# Altium footprint library Connectors.PcbLib: 77 footprints (part 3 of 5)
Each footprint in its own frame and in the unit in brackets; x right, y up, seen from the top. Pads: shape width x height; smd on the part's side, far side on the other; paste and mask are expansions set on the pad; w line width, h text height; cw(c..) or ccw(c..) is an arc to the next point about the centre after c.
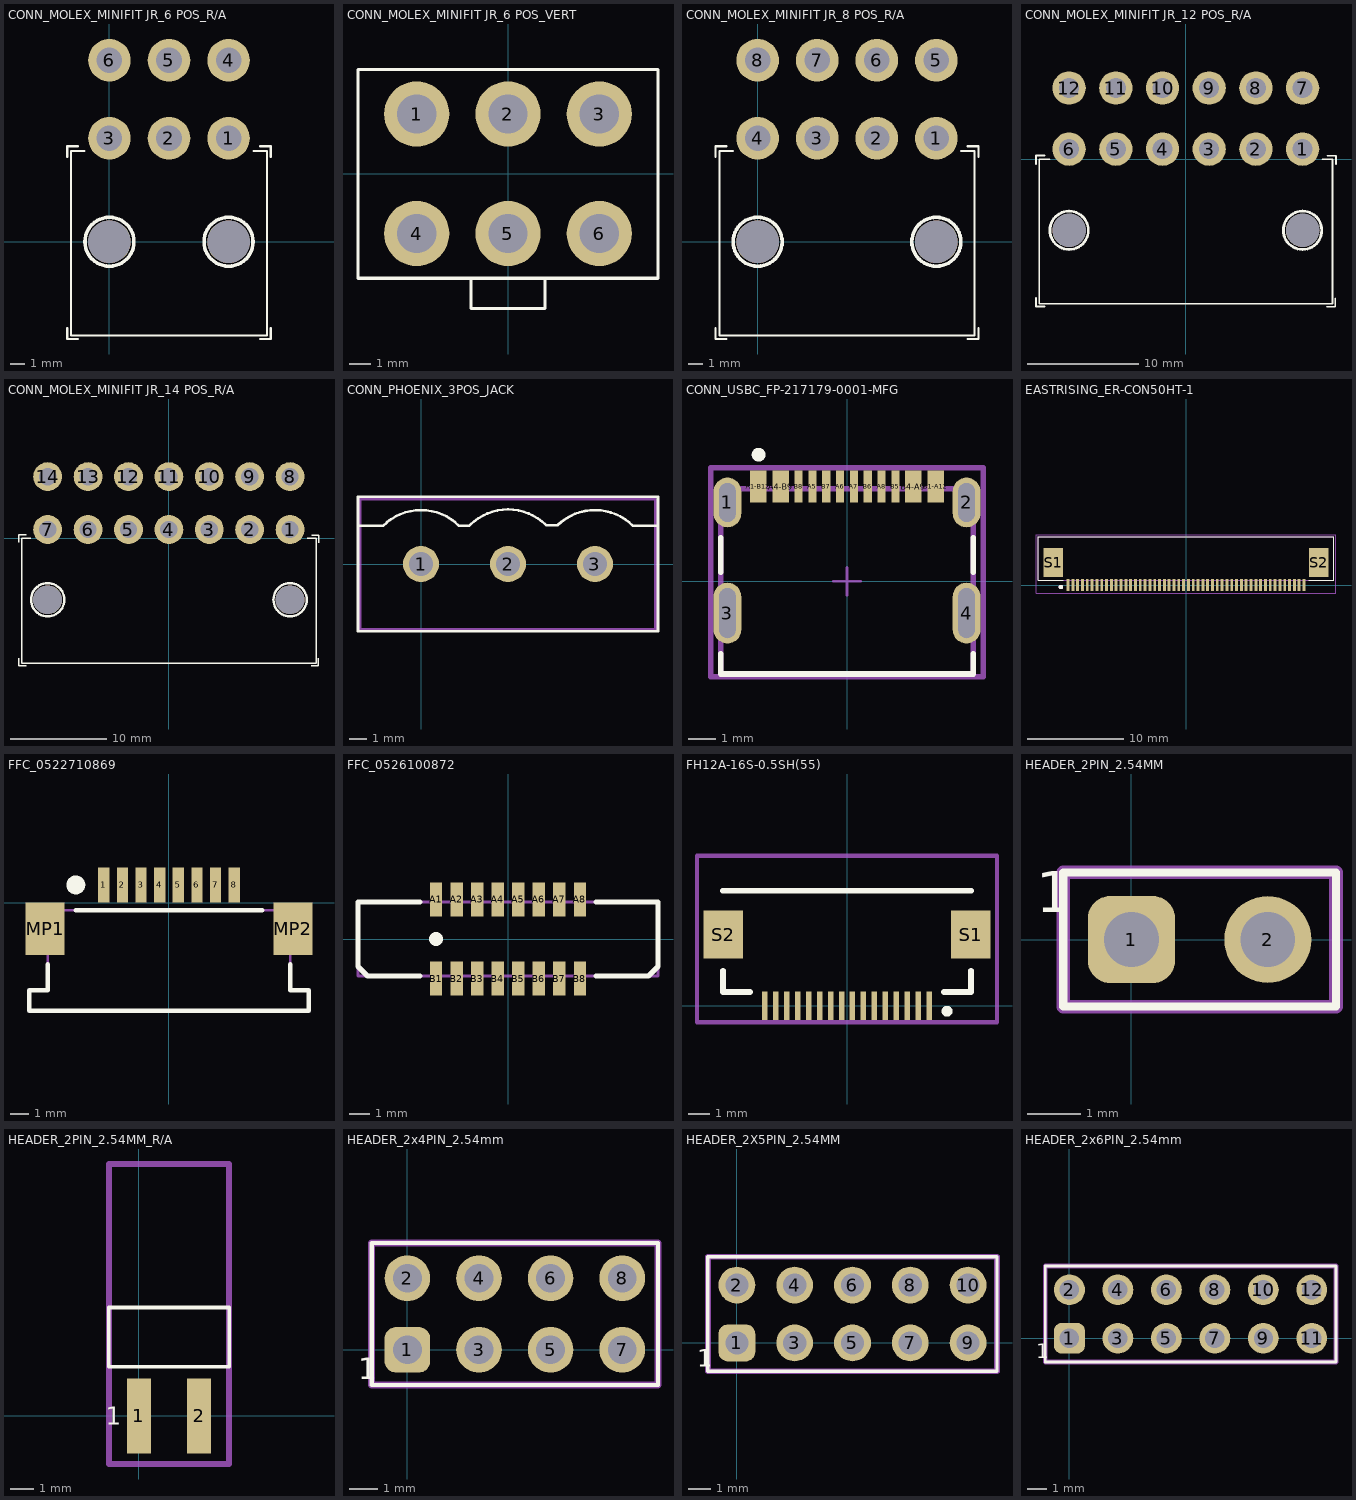
[diagram p2: the footprints below, top view; thin cyan lines are the x and y axes]

## CONN_MOLEX_MINIFIT JR_6 POS_R/A [mm] "Molex Minifit Jr 5569 6 Pos R/A"
pads (8):
  round 3 hole 1.801: 1(8.4,7.3) 4(8.4,12.8)
  round 3 hole 1.8: 2(4.2,7.3) 3(0,7.3) 5(4.2,12.8) 6(0,12.8)
  round 3 hole 3 unplated mask+0: ""(0,0) ""(8.4,0)
Top Overlay:
  circle w0.254: c8.4,0 r1.727
  circle w0.254: c0,0 r1.727
  lines w0.152: -2.98,-6.096 -2.98,-6.858 -2.218,-6.858 ; -2.98,5.969 -2.98,6.731 -2.218,6.731 ; -1.76,6.4 -2.7,6.4 -2.7,-6.604 11.1,-6.604 11.1,6.4 10.16,6.4 ; 10.618,-6.858 11.38,-6.858 11.38,-6.096 ; 10.618,6.731 11.38,6.731 11.38,5.969
3D body "039301060.stp": height 11.4, standoff -3.6, extent -2.582,-6.604 11.618,13.331

## CONN_MOLEX_MINIFIT JR_6 POS_VERT [mm] "Molex Minifit Jr 5566 6 Pos VERT"
pads (6):
  round 3 hole 1.8: 1(-4.2,2.75) 2(0,2.75) 4(-4.2,-2.75) 5(0,-2.75)
  round 3 hole 1.801: 3(4.2,2.75) 6(4.2,-2.75)
Top Overlay:
  lines w0.127: -1.7,-6.2 1.7,-6.2 1.7,-4.8 -1.7,-4.8 -1.7,-6.2
  lines w0.152: -6.9,-4.8 6.9,-4.8 6.9,4.8 -6.9,4.8 -6.9,-4.8
3D body "39-28-8060.stp": height 12.81, standoff -3.49, extent -7.234,-6.174 7.366,4.826

## CONN_MOLEX_MINIFIT JR_8 POS_R/A [mm] "Molex Minifit Jr 5569 8 Pos R/A"
pads (10):
  round 3 hole 1.801: 1(12.6,7.3) 2(8.4,7.3) 5(12.6,12.8) 6(8.4,12.8)
  round 3 hole 1.8: 3(4.2,7.3) 4(0,7.3) 7(4.2,12.8) 8(0,12.8)
  round 3 hole 3 unplated mask+0: ""(0,0) ""(12.6,0)
Top Overlay:
  circle w0.254: c0,0 r1.727
  circle w0.254: c12.6,0 r1.727
  lines w0.152: -2.98,-6.096 -2.98,-6.858 -2.218,-6.858 ; -2.98,5.969 -2.98,6.731 -2.218,6.731 ; -1.76,6.4 -2.7,6.4 -2.7,-6.604 15.3,-6.604 15.3,6.4 14.36,6.4 ; 14.818,-6.858 15.58,-6.858 15.58,-6.096 ; 14.818,6.731 15.58,6.731 15.58,5.969
3D body "039301080.stp": height 11.01, standoff -3.99, extent -2.7,-6.6 15.7,13.335

## CONN_MOLEX_MINIFIT JR_12 POS_R/A [mm] "Molex Minifit Jr 5569 12 Pos R/A"
pads (14):
  round 3 hole 1.801: 1(10.5,0.9) 2(6.3,0.9) 3(2.1,0.9) 4(-2.1,0.9) 7(10.5,6.4) 8(6.3,6.4) 9(2.1,6.4) 10(-2.1,6.4)
  round 3 hole 1.8: 5(-6.3,0.9) 6(-10.5,0.9) 11(-6.3,6.4) 12(-10.5,6.4)
  round 3 hole 3 unplated mask+0: ""(-10.5,-6.4) ""(10.5,-6.4)
Top Overlay:
  circle w0.254: c-10.5,-6.4 r1.727
  circle w0.254: c10.5,-6.4 r1.727
  lines w0.152: -13.48,-12.496 -13.48,-13.258 -12.718,-13.258 ; -13.48,-0.431 -13.48,0.331 -12.718,0.331 ; -12.26,0 -13.2,0 -13.2,-13.004 13.2,-13.004 13.2,0 12.26,0 ; 12.684,-13.27 13.446,-13.27 13.446,-12.508 ; 12.744,0.301 13.506,0.301 13.506,-0.461
3D body "039300120.stp": height 11.01, standoff -3.99, extent -13.274,-13.083 13.526,6.852

## CONN_MOLEX_MINIFIT JR_14 POS_R/A [mm] "Molex Minifit Jr 5569 14 Pos R/A"
pads (16):
  round 3 hole 1.801: 1(12.6,0.9) 2(8.4,0.9) 3(4.2,0.9) 4(0,0.9) 8(12.6,6.4) 9(8.4,6.4) 10(4.2,6.4) 11(0,6.4)
  round 3 hole 1.8: 5(-4.2,0.9) 6(-8.4,0.9) 7(-12.6,0.9) 12(-4.2,6.4) 13(-8.4,6.4) 14(-12.6,6.4)
  round 3 hole 3 unplated mask+0: ""(-12.6,-6.4) ""(12.6,-6.4)
Top Overlay:
  circle w0.254: c-12.6,-6.4 r1.727
  circle w0.254: c12.6,-6.4 r1.727
  lines w0.152: -15.58,-12.496 -15.58,-13.258 -14.818,-13.258 ; -15.58,-0.431 -15.58,0.331 -14.818,0.331 ; -14.36,0 -15.3,0 -15.3,-13.004 15.3,-13.004 15.3,0 14.36,0 ; 14.784,-13.27 15.546,-13.27 15.546,-12.508 ; 14.844,0.301 15.606,0.301 15.606,-0.461
3D body "039301140.stp": height 11.4, standoff -3.6, extent -15.3,-12.9 15.7,7.035

## CONN_PHOENIX_3POS_JACK [mm] "3 position phoenix connector jack end"
pads (3):
  round 2.1 hole 1.4: 1(0,0) 2(5.08,0) 3(10.16,0)
Top Overlay:
  lines w0.152: -3.683,2.227 -2.227,2.227 cw(c0,0) 2.227,2.227 2.814,2.227 ; 2.853,2.266 cw(c5.08,0.038) 7.307,2.266 7.933,2.266 ; 7.972,2.266 cw(c10.16,0) 12.387,2.227 13.843,2.227 ; -3.683,-3.937 13.843,-3.937 13.843,3.937 -3.683,3.937 -3.683,-3.937
Mechanical 1:
  lines w0.152: -3.54,-3.81 13.7,-3.81 13.7,3.8 -3.54,3.8 -3.54,-3.81
3D body "pxc_1755749_04_MSTBVA-2-5-3-G-5-08_3D.stp": height 12.01, standoff -3.89, extent -3.537,-4.7 13.703,3.87

## CONN_USBC_FP-217179-0001-MFG [mm] "USB-C (USB TYPE-C) USB 2.0 Receptacle Connector 24 (16+8 Dummy) Position Surface Mount, Right Angle; Through Hole"
pads (16):
  rrect100% 1x1.8 hole 1.4 slot 0.6 at 0 deg paste-2539.97 mask+0: 1(-4.32,2.85) 2(4.32,2.85)
  rrect100% 1x2.2 hole 1.8 slot 0.6 at 0 deg paste-2539.97 mask+0: 3(-4.32,-1.15) 4(4.32,-1.15)
  rect 0.6x1.15 smd paste+0 mask+0: A1-B12(-3.2,3.425) A4-B9(-2.4,3.425) B1-A12(3.2,3.425) B4-A9(2.4,3.425)
  rect 0.3x1.15 smd paste+0 mask+0: A5(-1.25,3.425) A6(-0.25,3.425) A7(0.25,3.425) A8(1.25,3.425) B5(1.75,3.425) B6(0.75,3.425) B7(-0.75,3.425) B8(-1.75,3.425)
Top Overlay:
  circle w0.25: c-3.195,4.575 r0.125
  lines w0.2: -4.57,-2.625 -4.57,-3.35 4.57,-3.35 4.57,-2.625 ; -4.57,0.325 -4.57,1.575 ; 4.57,0.325 4.57,1.575
Top 3D Body:
  lines w0.2: -4.57,-3.35 -4.57,3.35 4.57,3.35 4.57,-3.35 -4.57,-3.35
Top Assembly:
  lines w0.2: -4.92,-3.45 -4.92,4.1 4.92,4.1 4.92,-3.45 -4.92,-3.45
  text ".Designator" at 0,0.513 h1
Top Courtyard:
  lines w0.2: -4.92,-3.45 -4.92,4.1 4.92,4.1 4.92,-3.45 -4.92,-3.45
Top Component Center:
  lines w0.1: -0.5,0 0.5,0 ; 0,-0.5 0,0.5
3D body "Conn_Molex_217179-0001_eec.STEP": height 0.25, standoff 0, extent -4.92,-3.45 4.92,4.1

## EASTRISING_ER-CON50HT-1 [mm]
pads (52):
  rect 0.3x1.25 smd: 1(-12.25,0) 2(-11.75,0) 3(-11.25,0) 4(-10.75,0) 5(-10.25,0) 6(-9.75,0) 7(-9.25,0) 8(-8.75,0) 9(-8.25,0) 10(-7.75,0) 11(-7.25,0) 12(-6.75,0) 13(-6.25,0) 14(-5.75,0) 15(-5.25,0) 16(-4.75,0) 17(-4.25,0) 18(-3.75,0) 19(-3.25,0) 20(-2.75,0) 21(-2.25,0) 22(-1.75,0) 23(-1.25,0) 24(-0.75,0) 25(-0.25,0) 26(0.25,0) 27(0.75,0) 28(1.25,0) 29(1.75,0) 30(2.25,0) 31(2.75,0) 32(3.25,0) 33(3.75,0) 34(4.25,0) 35(4.75,0) 36(5.25,0) 37(5.75,0) 38(6.25,0) 39(6.75,0) 40(7.25,0) 41(7.75,0) 42(8.25,0) 43(8.75,0) 44(9.25,0) 45(9.75,0) 46(10.25,0) 47(10.75,0) 48(11.25,0) 49(11.75,0) 50(12.25,0)
  rect 2x3 smd: S1(-13.79,2.325) S2(13.79,2.325)
Top Overlay:
  circle w0.25: c-13,-0.2 r0.1
  lines w0.127: -12.75,0.5 -15.325,0.5 -15.325,5 15.325,5 15.325,0.5 12.75,0.5
Mechanical 13:
  circle w0.25: c-13,-0.2 r0.1
  lines w0.127: -15.325,0.5 -15.325,5 15.325,5 15.325,0.5 -15.325,0.5
Mechanical 15:
  lines w0.05: -15.575,-0.875 -15.575,5.25 15.575,5.25 15.575,-0.875 -15.575,-0.875

## FFC_0522710869 [mm] "Molex FFC 8 Bottom 1.00MM R/A"
pads (10):
  rect 0.6x1.9 smd: 1(-3.5,0.95) 2(-2.5,0.95) 3(-1.5,0.95) 4(-0.5,0.95) 5(0.5,0.95) 6(1.5,0.95) 7(2.5,0.95) 8(3.5,0.95)
  rect 2.1x2.8 smd: MP1(-6.65,-1.4) MP2(6.65,-1.4)
Top Overlay:
  circle w0.508: c-5,0.95 r0.254
  lines w0.254: -7.5,-4.7 -7.5,-5.8 7.5,-5.8 7.5,-4.7 ; -7.494,-4.7 -6.5,-4.7 -6.5,-3.3 ; -5,-0.4 5,-0.4 ; 6.5,-3.3 6.5,-4.7 7.494,-4.7
Mechanical 1:
  lines w0.127: -7.5,-4.7 -7.5,-5.8 7.5,-5.8 7.5,-4.7 ; -7.494,-4.7 -6.5,-4.7 -6.5,-0.4 6.5,-0.4 6.5,-4.7 7.494,-4.7
3D body "522710869.stp": height 3.01, standoff 0.01, extent -7.5,-5.8 7.5,1.6

## FFC_0526100872 [mm] "Molex FFC VERT 8POS 1.00MM SMD"
pads (16):
  rect 0.6x1.65 smd: A1(-3.5,1.925) A2(-2.5,1.925) A3(-1.5,1.925) A4(-0.5,1.925) A5(0.5,1.925) A6(1.5,1.925) A7(2.5,1.925) A8(3.5,1.925) B1(-3.5,-1.925) B2(-2.5,-1.925) B3(-1.5,-1.925) B4(-0.5,-1.925) B5(0.5,-1.925) B6(1.5,-1.925) B7(2.5,-1.925) B8(3.5,-1.925)
Top Overlay:
  circle w0.339: c-3.5,0 r0.169
  lines w0.254: -4.3,-1.8 -6.836,-1.8 -7.3,-1.336 -7.3,1.8 -4.3,1.8 ; 4.3,-1.8 6.836,-1.8 7.3,-1.336 7.3,1.8 4.3,1.8
Mechanical 1:
  lines w0.127: -7.3,-1.8 -7.3,1.8 7.3,1.8 7.3,-1.8 -7.3,-1.8
3D body "526100872.stp": height 5.76, standoff 0.01, extent -7.3,-2.25 7.3,2.25

## FH12A-16S-0.5SH(55) [mm]
pads (18):
  rect 0.25x1.3 smd mask+0.025: 1(3.75,0) 2(3.25,0) 3(2.75,0) 4(2.25,0) 5(1.75,0) 6(1.25,0) 7(0.75,0) 8(0.25,0) 9(-0.25,0) 10(-0.75,0) 11(-1.25,0) 12(-1.75,0) 13(-2.25,0) 14(-2.75,0) 15(-3.25,0) 16(-3.75,0)
  rect 1.8x2.2 smd: S1(5.65,3.25) S2(-5.65,3.25)
Top Overlay:
  circle w0.25: c4.572,-0.254 r0.125
  lines w0.25: -5.675,5.25 5.675,5.25
  lines w0.267: -5.675,1.6 -5.675,0.625 -4.435,0.625 ; 4.435,0.625 5.675,0.625 5.675,1.6
Mechanical 1:
  lines w0.203: -6.858,-0.762 6.858,-0.762 6.858,6.858 -6.858,6.858 -6.858,-0.762
3D body "FH12A-16S-0.5SH.stp": height 2.05, standoff -0.1, extent -6.25,-0.254 6.25,6.746

## HEADER_2PIN_2.54MM [mm]
pads (2):
  rrect50% 1.62x1.62 hole 1.02: 1(0,0)
  round 1.62 hole 1.02: 2(2.54,0)
Top Overlay:
  lines w0.152: -1.27,-1.25 3.81,-1.25 3.81,1.25 -1.27,1.25 -1.27,-1.25
  text "1" at -1.778,0.508 h0.76
Mechanical 1:
  lines w0.254: -1.27,-1.25 3.81,-1.25 3.81,1.25 -1.27,1.25 -1.27,-1.25
3D body "PREC002SAAN-RC.STEP": height 8.39, standoff -3.04, extent -1.27,-1.25 3.81,1.29

## HEADER_2PIN_2.54MM_R/A [mm]
pads (2):
  rect 1.02x3.17 smd: 1(0,0) 2(2.54,0)
Top Overlay:
  lines w0.152: -1.27,2.072 -1.27,4.572 3.81,4.572 3.81,2.072 -1.27,2.072
  text "1" at -1.397,-0.381 h0.76
Mechanical 1:
  lines w0.254: -1.27,-2.032 -1.27,10.628 3.81,10.628 3.81,-2.032 -1.27,-2.032
3D body "m20-8890245_asm.stp": height 2.51, standoff 0.01, extent -1.27,-0.944 3.81,10.552

## HEADER_2x4PIN_2.54mm [mm]
pads (8):
  rrect50% 1.62x1.62 hole 1.02: 1(0,0)
  round 1.62 hole 1.02: 2(0,2.54) 3(2.54,0) 4(2.54,2.54) 5(5.08,0) 6(5.08,2.54) 7(7.62,0) 8(7.62,2.54)
Top Overlay:
  lines w0.152: -1.27,-1.25 8.89,-1.25 8.89,3.79 -1.27,3.79 -1.27,-1.25
  text "1" at -1.753,-1.041 h0.76
Mechanical 1:
  lines w0.254: -1.27,-1.25 8.89,-1.25 8.89,3.79 -1.27,3.79 -1.27,-1.25
3D body "TSW-104-07-G-D_SAI.step": height 8.38, standoff -5.08, extent -1.27,-1.27 8.89,3.81

## HEADER_2X5PIN_2.54MM [mm]
pads (10):
  rrect50% 1.62x1.62 hole 1.02: 1(0,0)
  round 1.62 hole 1.02: 2(0,2.54) 3(2.54,0) 4(2.54,2.54) 5(5.08,0) 6(5.08,2.54) 7(7.62,0) 8(7.62,2.54)
  round 1.62 hole 1: 9(10.16,0) 10(10.16,2.54)
Top Overlay:
  lines w0.152: -1.27,-1.25 -1.27,3.79 11.43,3.79 11.43,-1.25 -1.27,-1.25
  text "1" at -1.753,-1.041 h0.76
Mechanical 1:
  lines w0.254: -1.27,-1.25 -1.27,3.79 11.43,3.79 11.43,-1.25 -1.27,-1.25
3D body "Pin Header 2x5 TH Pitch 2.54mm.stp": height 9.5, standoff -3.2, extent -1.27,-1.27 11.43,3.81

## HEADER_2x6PIN_2.54mm [mm]
pads (12):
  rrect50% 1.62x1.62 hole 1.02: 1(0,0)
  round 1.62 hole 1.02: 2(0,2.54) 3(2.54,0) 4(2.54,2.54) 5(5.08,0) 6(5.08,2.54) 7(7.62,0) 8(7.62,2.54)
  round 1.62 hole 1: 9(10.16,0) 10(10.16,2.54) 11(12.7,0) 12(12.7,2.54)
Top Overlay:
  lines w0.152: -1.27,-1.25 13.97,-1.25 13.97,3.79 -1.27,3.79 -1.27,-1.25
  text "1" at -1.753,-1.041 h0.76
Mechanical 1:
  lines w0.254: -1.27,-1.25 13.97,-1.25 13.97,3.79 -1.27,3.79 -1.27,-1.25
3D body "CONN_PH2-12-UA_ADM.step": height 8.51, standoff -5.08, extent -1.27,-1.27 13.97,3.81